# Altium schematic symbol library SamacSys.SchLib: 8 symbols
Pins are listed as number, name and electrical type; pins without a type are passive.

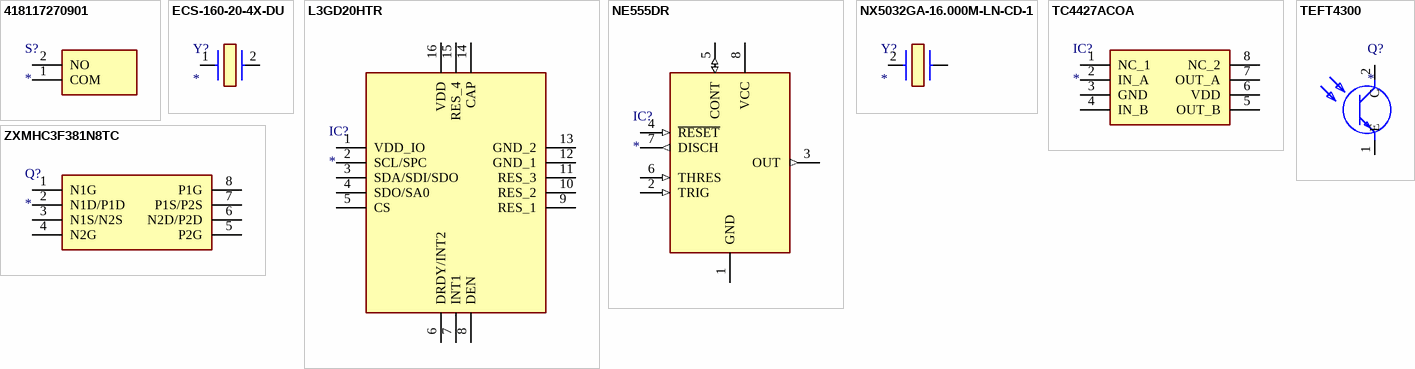
[diagram p0: symbols 418117270901 to ZXMHC3F381N8TC]

## 418117270901
designator S?
Switch; Manufacturer_Name: Wurth Elektronik; Manufacturer_Part_Number: 418117270901; Datasheet Link: http://katalog.we-online.de/em/datasheet/418117270901.pdf; Height: 5mm; Mouser Part Number: 710-418117270901; Mouser Price/Stock: https://www.mouser.co.uk/ProductDetail/Wurth-Elektronik/418117270901?qs=wr8lucFkNMXoidz%252BMVxNfg%3D%3D
footprint 418117270901
pins: 1 COM, 2 NO

## ECS-160-20-4X-DU
designator Y?
Crystal or Oscillator; Manufacturer_Name: ECS; Manufacturer_Part_Number: ECS-160-20-4X-DU; Datasheet Link: https://www.ecsxtal.com/store/pdf/hc-49usx.pdf; Mouser Part Number: 520-160-20-4X-DU; Mouser Price/Stock: https://www.mouser.co.uk/ProductDetail/ECS/ECS-160-20-4X-DU?qs=ttzZIJSyan1DdSkXa2hn2g%3D%3D; Arrow Part Number: ECS-160-20-4X-DU; Arrow Price/Stock: https://www.arrow.com/en/products/ecs-160-20-4x-du/ecs-international?region=nac
footprint HC-49USX
pins: 1, 2

## L3GD20HTR
designator IC?
Integrated Circuit; Manufacturer_Name: STMicroelectronics; Manufacturer_Part_Number: L3GD20HTR; Datasheet Link: http://www.st.com/content/ccc/resource/technical/document/datasheet/35/b1/e0/39/71/57/43/01/DM00060659.pdf/files/DM00060659.pdf/jcr:content/translations/en.DM00060659.pdf; Height: 1mm; Mouser Part Number: 511-L3GD20HTR; Mouser Price/Stock: https://www.mouser.co.uk/ProductDetail/STMicroelectronics/L3GD20HTR?qs=7v3IMFVTeKNoM%2F2Sb4QSlQ%3D%3D; Arrow Part Number: L3GD20HTR; Arrow Price/Stock: https://www.arrow.com/en/products/l3gd20htr/stmicroelectronics
footprint H3LIS100DLTR
pins: 1 VDD_IO, 2 SCL/SPC, 3 SDA/SDI/SDO, 4 SDO/SA0, 5 CS, 6 DRDY/INT2, 7 INT1, 8 DEN, 9 RES_1, 10 RES_2, 11 RES_3, 12 GND_1, 13 GND_2, 14 CAP, 15 RES_4, 16 VDD

## NE555DR
designator IC?
Integrated Circuit; Manufacturer_Name: Texas Instruments; Manufacturer_Part_Number: NE555DR; Datasheet Link: http://www.ti.com/lit/ds/symlink/ne555.pdf; Height: 1.75mm; Mouser Part Number: 595-NE555DR; Mouser Price/Stock: https://www.mouser.com/Search/Refine.aspx?Keyword=595-NE555DR; RS Part Number: 1218414; RS Price/Stock: http://uk.rs-online.com/web/p/products/1218414
footprint SOIC127P600X175-8N
pins: 1 GND (power), 2 TRIG (in), 3 OUT (out), 4 ~{RESET} (in), 5 CONT (io), 6 THRES (in), 7 DISCH (out), 8 VCC (power)

## NX5032GA-16.000M-LN-CD-1
designator Y?
Crystal or Oscillator; Manufacturer_Name: NDK; Manufacturer_Part_Number: NX5032GA-16.000M-LN-CD-1; Description: Crystals CRYSTAL 16MHZ 8PF SMD; Datasheet Link: https://media.digikey.com/pdf/Data%20Sheets/NDK%20PDFs/NX5032GA.pdf; Height: 1.5mm; Mouser Part Number: 344-NX5032GA16MLNCD1; Mouser Price/Stock: https://www.mouser.co.uk/ProductDetail/NDK/NX5032GA-16.000M-LN-CD-1?qs=55YtniHzbhDnyNixVDBwYw%3D%3D
footprint NX5032GA16000000MHZLNCD1
pins: 2 X2, ?1

## TC4427ACOA
designator IC?
Integrated Circuit; Manufacturer_Name: Microchip; Manufacturer_Part_Number: TC4427ACOA; Datasheet Link: https://datasheet.datasheetarchive.com/originals/distributors/Datasheets-306/110017.pdf; Height: 1.75mm; Mouser Part Number: 579-TC4427ACOA; Mouser Price/Stock: https://www.mouser.co.uk/ProductDetail/Microchip-Technology/TC4427ACOA?qs=g6BBfX6YTklnRUZ4V7kDWA%3D%3D; Arrow Part Number: TC4427ACOA; Arrow Price/Stock: https://www.arrow.com/en/products/tc4427acoa/microchip-technology?region=europe
footprint SOIC127P600X175-8N
pins: 1 NC_1, 2 IN_A, 3 GND, 4 IN_B, 5 OUT_B, 6 VDD, 7 OUT_A, 8 NC_2

## TEFT4300
designator Q?
Phototransistor; Manufacturer_Name: Vishay; Manufacturer_Part_Number: TEFT4300; Datasheet Link: https://datasheet.datasheetarchive.com/originals/distributors/Datasheets-310/86913.pdf; Height: 6.1mm; Mouser Part Number: 782-TEFT4300; Mouser Price/Stock: https://www.mouser.co.uk/ProductDetail/Vishay-Semiconductors/TEFT4300?qs=HsFHTXumnCRbcrt8oPFPMA%3D%3D; Arrow Part Number: TEFT4300; Arrow Price/Stock: https://www.arrow.com/en/products/teft4300/vishay?region=nac
footprint TEFT4300
pins: 1 E, 2 C

## ZXMHC3F381N8TC
designator Q?
MOSFET (N-Channel); Manufacturer_Name: Diodes Inc.; Manufacturer_Part_Number: ZXMHC3F381N8TC; Datasheet Link: https://www.diodes.com/assets/Datasheets/ZXMHC3F381N8.pdf; Height: 1.75mm; Mouser Part Number: 522-ZXMHC3F381N8TC; Mouser Price/Stock: https://www.mouser.co.uk/ProductDetail/Diodes-Incorporated/ZXMHC3F381N8TC?qs=7E5rbXJDVJoJr15tcLBfrA%3D%3D; Arrow Part Number: ZXMHC3F381N8TC; Arrow Price/Stock: https://www.arrow.com/en/products/zxmhc3f381n8tc/diodes-incorporated?region=nac
footprint SOIC127P600X175-8N
pins: 1 N1G, 2 N1D/P1D, 3 N1S/N2S, 4 N2G, 5 P2G, 6 N2D/P2D, 7 P1S/P2S, 8 P1G